# Altium schematic symbol library Schlib_1.SchLib: 7 symbols
Pins are listed as number, name and electrical type; pins without a type are passive.

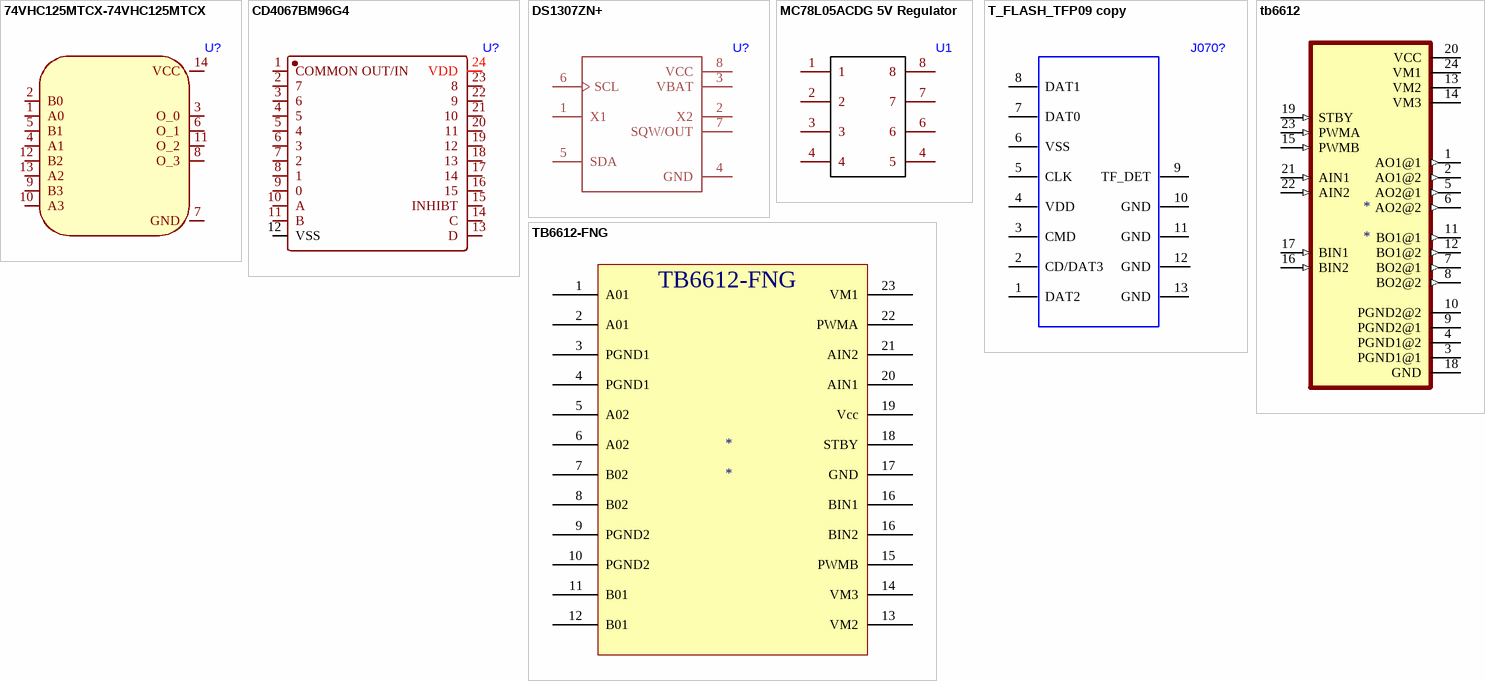
[diagram p0: symbols 74VHC125MTCX-74VHC125MTCX to TB6612-FNG]

## 74VHC125MTCX-74VHC125MTCX
designator U?
footprint SOP65P640X120-14N (Footprint not found)
pins: 1 A0, 2 B0, 3 O_0, 4 A1, 5 B1, 6 O_1, 7 GND, 8 O_3, 9 B3, 10 A3, 11 O_2, 12 B2, 13 A2, 14 VCC

## CD4067BM96G4
designator U?
footprint SOIC-24_L15.4-W7.5-P1.27-LS10.3-BL
footprint CD4067BM_SOIC-24
pins: 1 COMMON OUT/IN, 2 7, 3 6, 4 5, 5 4, 6 3, 7 2, 8 1, 9 0, 10 A, 11 B, 12 VSS, 13 D, 14 C, 15 INHIBT, 16 15, 17 14, 18 13, 19 12, 20 11, 21 10, 22 9, 23 8, 24 VDD

## DS1307ZN+
designator U?
footprint SOIC-8 (SOIC, 8-Leads, Body 4/90x3/90mm, Pitch 1/27mm, IPC Medium Density)
pins: 1 X1, 2 X2, 3 VBAT, 4 GND, 5 SDA, 6 SCL, 7 SQW/OUT, 8 VCC

## MC78L05ACDG 5V Regulator
designator U1
footprint 78L05CD15V5V_LIB (Footprint not found)
pins: 1, 2, 3, 4, 4 5, 6, 7, 8

## T_FLASH_TFP09 copy
designator J070?
footprint TFP09-2-12B-MOD
pins: 1 DAT2, 2 CD/DAT3, 3 CMD, 4 VDD, 5 CLK, 6 VSS, 7 DAT0, 8 DAT1, 9 TF_DET, 10 GND, 11 GND, 12 GND, 13 GND

## tb6612
designator *
footprint Ssop24_SOP65P760X160-24N
pins: 1 AO1@1 (out), 2 AO1@2 (out), 3 PGND1@1, 4 PGND1@2, 5 AO2@1 (out), 6 AO2@2 (out), 7 BO2@1 (out), 8 BO2@2 (out), 9 PGND2@1, 10 PGND2@2, 11 BO1@1 (out), 12 BO1@2 (out), 13 VM2 (power), 14 VM3 (power), 15 PWMB (in), 16 BIN2 (in), 17 BIN1 (in), 18 GND, 19 STBY (in), 20 VCC (power), 21 AIN1 (in), 22 AIN2 (in), 23 PWMA (in), 24 VM1 (power)

## TB6612-FNG
designator *
footprint Ssop24_SOP65P760X160-24N
pins: 1 A01, 2 A01, 3 PGND1, 4 PGND1, 5 A02, 6 A02, 7 B02, 8 B02, 9 PGND2, 10 PGND2, 11 B01, 12 B01, 13 VM2, 14 VM3, 15 PWMB, 16 BIN1, 16 BIN2, 17 GND, 18 STBY, 19 Vcc, 20 AIN1, 21 AIN2, 22 PWMA, 23 VM1